# EAGLE library part LDHM_172946001 (library Eagle_STEP-DOWN-CONVERTER (rev18c))
MagI³C-LDHM LED Step Down High Current Module 4.5 - 60V / 450mA / 4.5 - 60V Output <http://katalog.we-online.de/media/images/v2/Family_LED-Driver_Module_WE-LDHM_7EP.jpg> Details see: http://katalog.we-online.de/pm/datasheet/172946001.pdf Created date 2014-06-19 2014 (C) Würth Elektronik
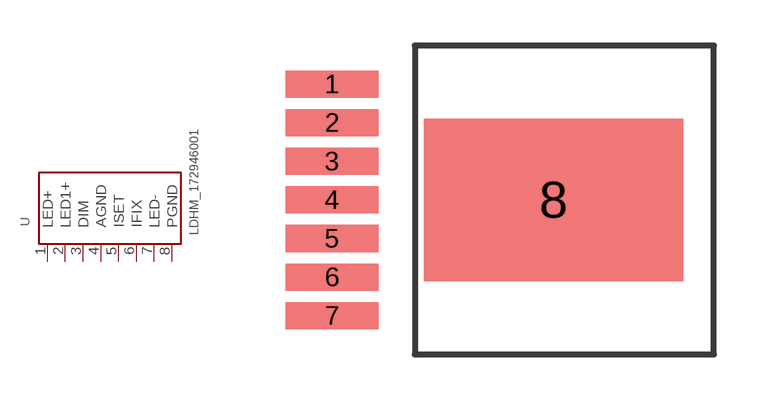
[diagram p0: symbol with the pads of LDHM_172946001; footprint LDHM_172946001]

Designator prefix U

## LDHM_172946001  [LDHM_172946001]
1  LED+
2  LED1+
3  DIM
4  AGND
5  ISET
6  IFIX
7  LED-
8  PGND

## Footprint LDHM_172946001 (pad centres in mm)
VDRM - Variable Step Down Regulator Module Created on 2014-06-19
smd 3.06 x 0.89: 1 -7.305,3.81; 2 -7.305,2.54; 3 -7.305,1.27; 4 -7.305,0; 5 -7.305,-1.27; 6 -7.305,-2.54; 7 -7.305,-3.81
smd 8.54 x 5.35: 8 0,0